# Altium schematic symbol library RESx4VI.Schlib: 1 symbol
Pins are listed as number, name and electrical type; pins without a type are passive.

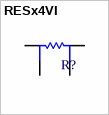
[diagram p0: symbol RESx4VI]

## RESx4VI
designator R?
Resistor
signal-integrity model Res
pins: 1, 2, 3, 4